# Altium schematic symbol library SCH - POWER - MODULE - URB2412YMD-40WR3.SchLib: 1 symbol
Pins are listed as number, name and electrical type; pins without a type are passive.

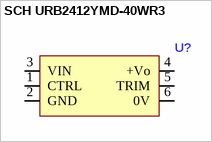
[diagram p0: symbol SCH URB2412YMD-40WR3]

## SCH URB2412YMD-40WR3
designator U?
pins: 1 CTRL, 2 GND, 3 VIN, 4 +Vo, 5 TRIM, 6 0V